# EAGLE library part SI1132 (library awqua_eagle_library)
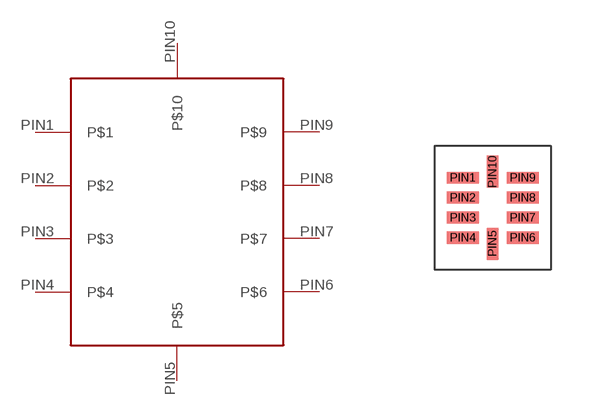
[diagram p13: symbol with the pads of SI1132; footprint SI1132]

Designator prefix -

## SI1132  [SI1132]
PIN1  P$1
PIN2  P$2
PIN3  P$3
PIN4  P$4
PIN5  P$5
PIN6  P$6
PIN7  P$7
PIN8  P$8
PIN9  P$9
PIN10  P$10

## Footprint SI1132 (pad centres in mm)
smd 0.8 x 0.3: PIN1 0.7,2.3; PIN2 0.7,1.8; PIN3 0.7,1.3; PIN4 0.7,0.8; PIN6 2.2,0.8; PIN7 2.2,1.3; PIN8 2.2,1.8; PIN9 2.2,2.3
smd 0.3 x 0.8: PIN5 1.45,0.65; PIN10 1.45,2.45